# EAGLE library part ADC_ADS1115 (library fslib)
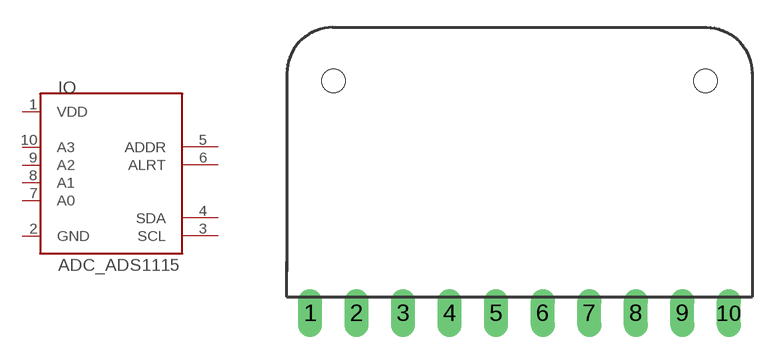
[diagram p0: symbol with the pads of 10PIN; footprint 10PIN]

Designator prefix IO

## ADC_ADS1115  [10PIN]
1  VDD  pwr
2  GND  pwr
3  SCL
4  SDA
5  ADDR  hiz
6  ALRT  out
7  A0  in
8  A1  in
9  A2  in
10  A3  in

## Footprint 10PIN (pad centres in mm)
drill 0.813 long: 1 -10.16,-3.81; 2 -7.62,-3.81; 3 -5.08,-3.81; 4 -2.54,-3.81; 5 0,-3.81; 6 2.54,-3.81; 7 5.08,-3.81; 8 7.62,-3.81; 9 10.16,-3.81; 10 12.7,-3.81
hole 1.27 at -8.89,8.89
hole 1.27 at 11.43,8.89